# EAGLE library part GY-521 (library GY-521)
Check availability <https://pricing.snapeda.com/parts/GY-521/GODREAM%20FORDREAM%20CO.%2C%20LIMITED/view-part?ref=eda>
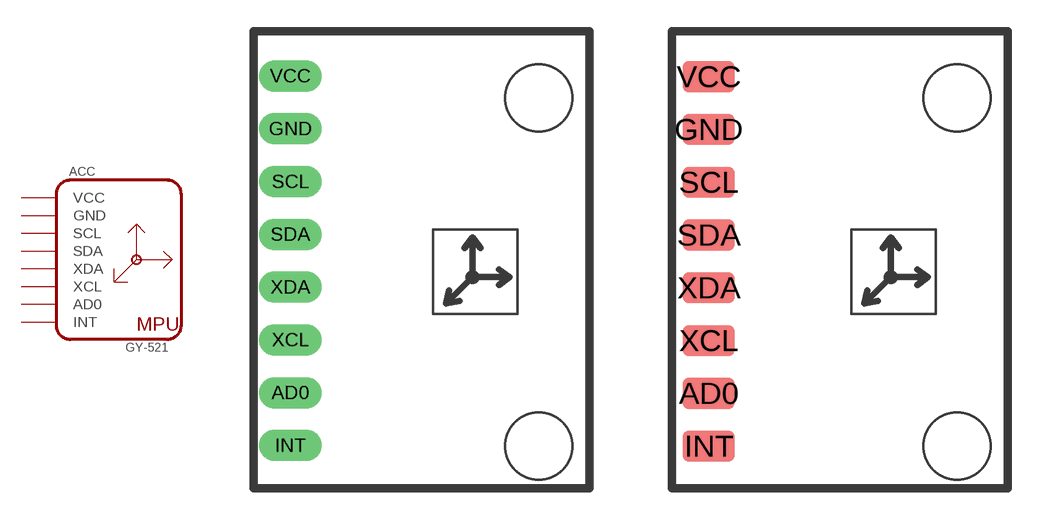
[diagram p0: symbol with the pads of GY-521; footprints GY-521, GY-521_SMD]

Designator prefix ACC

## GY-521PTH (Availability: Not in stock; Check_prices: https://www.snapeda.com/parts/GY-521/GODREAM+FORDREAM+CO.%252C+LIMITED/view-part/?ref=eda; Description: Triple Axis Accelerometer Gyro Breakout; MF: GODREAM FORDREAM CO., LIMITED; MP: GY-521; Package: Package; Price: None; SnapEDA_Link: https://www.snapeda.com/parts/GY-521/GODREAM+FORDREAM+CO.%252C+LIMITED/view-part/?ref=snap)  [GY-521]
AD0  AD0
GND  GND  pwr
INT  INT
SCL  SCL
SDA  SDA
VCC  VCC  pwr
XCL  XCL
XDA  XDA

## GY-521 (Availability: Not in stock; Check_prices: https://www.snapeda.com/parts/GY-521/GODREAM+FORDREAM+CO.%252C+LIMITED/view-part/?ref=eda; Description: Triple Axis Accelerometer Gyro Breakout; MF: GODREAM FORDREAM CO., LIMITED; MP: GY-521; Package: Package; Price: None; SnapEDA_Link: https://www.snapeda.com/parts/GY-521/GODREAM+FORDREAM+CO.%252C+LIMITED/view-part/?ref=snap)  [GY-521_SMD]
Pads as for GY-521

## Footprint GY-521 (pad centres in mm)
drill 1 pad 1.5 long: AD0 1.77,4.604; GND 1.77,17.304; INT 1.77,2.064; SCL 1.77,14.764; SDA 1.77,12.224; VCC 1.77,19.844; XCL 1.77,7.144; XDA 1.77,9.684

## Footprint GY-521_SMD (pad centres in mm)
smd 2.5 x 1.5: AD0 1.778,4.572; GND 1.778,17.272; INT 1.778,2.032; SCL 1.778,14.732; SDA 1.778,12.192; VCC 1.778,19.812; XCL 1.778,7.112; XDA 1.778,9.652